# Altium footprint library IC_SMD_DUAL.PCBLIB: 187 footprints (part 7 of 12)
Each footprint in its own frame and in the unit in brackets; x right, y up, seen from the top. Pads: shape width x height; smd on the part's side, far side on the other; paste and mask are expansions set on the pad; w line width, h text height; cw(c..) or ccw(c..) is an arc to the next point about the centre after c.
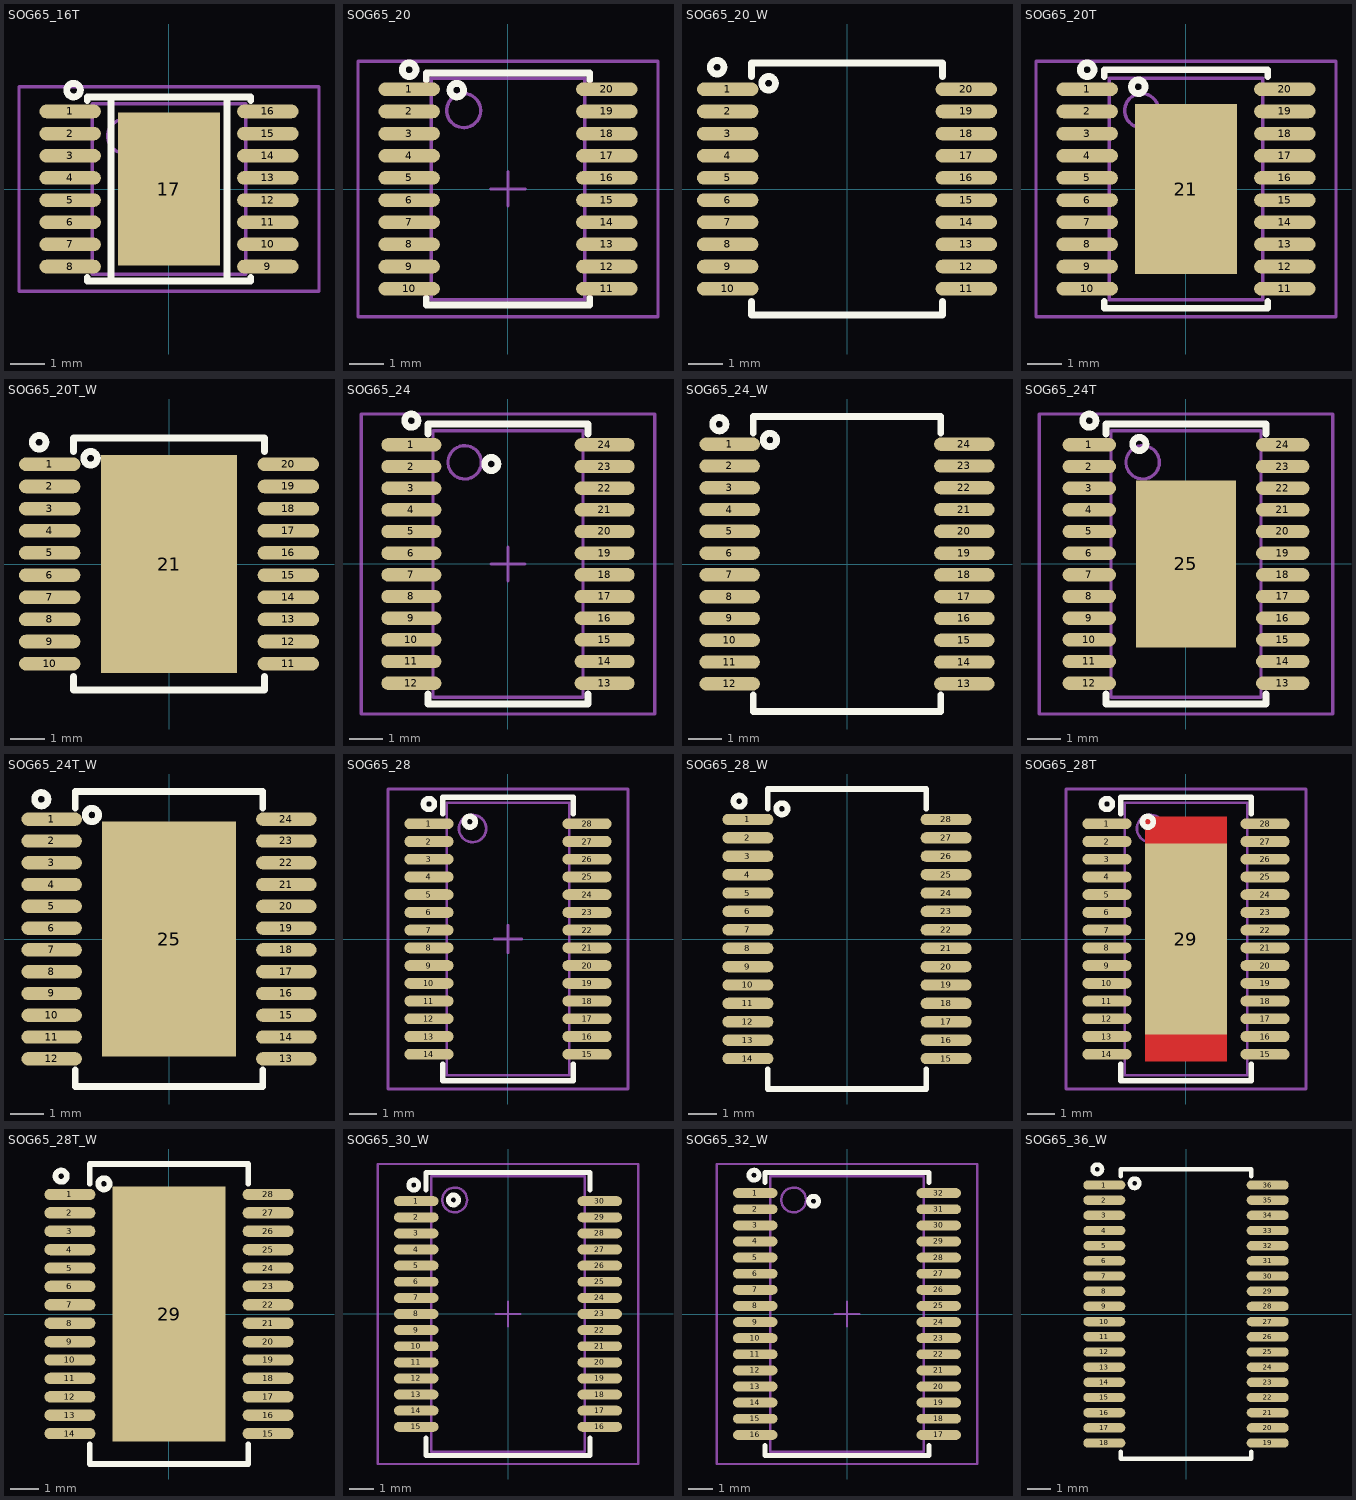
[diagram p6: the footprints below, top view; thin cyan lines are the x and y axes]

## SOG65_16T [mm] "TSSOP 4.4mm(MAXIM), MO-153-ABT (JEDEC), 16Lead, pitch: 0.65mm, 5x4.4x1.2mm"
height 1.2
pads (17):
  oval 1.8x0.4 smd mask+0.075: 1(-2.9,2.275) 2(-2.9,1.625) 3(-2.9,0.975) 4(-2.9,0.325) 5(-2.9,-0.325) 6(-2.9,-0.975) 7(-2.9,-1.625) 8(-2.9,-2.275) 9(2.9,-2.275) 10(2.9,-1.625) 11(2.9,-0.975) 12(2.9,-0.325) 13(2.9,0.325) 14(2.9,0.975) 15(2.9,1.625) 16(2.9,2.275)
  rect 3x4.5 smd paste-5 mask+0.1: 17(0,0)
TopOverlay:
  circle w0.2: c-2.8,2.9 r0.2
  lines w0.2: -2.4,-2.6 -2.4,-2.7 2.4,-2.7 2.4,-2.6 ; -2.4,2.6 -2.4,2.7 2.4,2.7 2.4,2.6 ; -1.7,-2.7 -1.7,2.7 ; 1.7,-2.7 1.7,2.7
TopPaste:
  rectangle: -1.3,-2 -0.2,-0.2
  region: 1.3,-0.2 0.2,-0.2 0.2,-2 1.3,-2
  region: 1.3,2 0.2,2 0.2,0.2 1.3,0.2
  rectangle: -1.3,0.2 -0.2,2
Mechanical13:
  circle w0.1: c-1.3,1.55 r0.5
  lines w0.1: -2.25,-2.5 -2.25,2.5 2.25,2.5 2.25,-2.5 -2.25,-2.5
Mechanical15:
  lines w0.1: -0.5,0 0.5,0 ; 0,-0.5 0,0.5 ; -4.4,-3 -4.4,3 4.4,3 4.4,-3 -4.4,-3
3D body "User Library-TSSOP-16-1.step": height 1.1, standoff 0, extent -3.2,-2.5 3.2,2.5

## SOG65_20 [mm] "PW TSSOP (TI), MO-153-AC (JEDEC), 20Lead, pitch: 0.65mm, 6.5x4.4x1.2mm"
height 1.2
pads (20):
  oval 1.8x0.4 smd mask+0.075: 1(-2.9,2.925) 2(-2.9,2.275) 3(-2.9,1.625) 4(-2.9,0.975) 5(-2.9,0.325) 6(-2.9,-0.325) 7(-2.9,-0.975) 8(-2.9,-1.625) 9(-2.9,-2.275) 10(-2.9,-2.925) 11(2.9,-2.925) 12(2.9,-2.275) 13(2.9,-1.625) 14(2.9,-0.975) 15(2.9,-0.325) 16(2.9,0.325) 17(2.9,0.975) 18(2.9,1.625) 19(2.9,2.275) 20(2.9,2.925)
TopOverlay:
  circle w0.2: c-1.5,2.9 r0.2
  circle w0.2: c-2.9,3.5 r0.2
  lines w0.2: -2.4,-3.2 -2.4,-3.4 2.4,-3.4 2.4,-3.2 ; -2.4,3.2 -2.4,3.4 2.4,3.4 2.4,3.2
Mechanical13:
  circle w0.1: c-1.3,2.3 r0.5
  lines w0.1: -2.25,-3.25 2.25,-3.25 2.25,3.25 -2.25,3.25 -2.25,-3.25
Mechanical15:
  lines w0.1: -0.5,0 0.5,0 ; 0,-0.5 0,0.5 ; -4.4,-3.75 4.4,-3.75 4.4,3.75 -4.4,3.75 -4.4,-3.75
3D body "User Library-TSSOP-20-2.STEP": height 1.2, standoff 0, extent -3.2,-3.25 3.2,3.25

## SOG65_20_W [mm] "SSOP20, TSSOP20, RU-20, RQ-20, DB, pitch: 0.65mm, 7X5.3mm, QSP, SOT339-1, SOT266-1, AT-260, TSSO6X6-G20, NP20, MO-153AC, MO-150AE, MO-137-AD, MO-152"
pads (20):
  oval 1.8x0.4 smd mask+0.075: 1(-3.5,2.925) 2(-3.5,2.275) 3(-3.5,1.625) 4(-3.5,0.975) 5(-3.5,0.325) 6(-3.5,-0.325) 7(-3.5,-0.975) 8(-3.5,-1.625) 9(-3.5,-2.275) 10(-3.5,-2.925) 11(3.5,-2.925) 12(3.5,-2.275) 13(3.5,-1.625) 14(3.5,-0.975) 15(3.5,-0.325) 16(3.5,0.325) 17(3.5,0.975) 18(3.5,1.625) 19(3.5,2.275) 20(3.5,2.925)
TopOverlay:
  circle w0.2: c-3.81,3.57 r0.2
  circle w0.2: c-2.3,3.1 r0.2
  lines w0.2: -2.8,-3.3 -2.8,-3.7 2.8,-3.7 2.8,-3.3 ; -2.8,3.3 -2.8,3.7 2.8,3.7 2.8,3.3
3D body "User Library-SSOP 20 PIN-1.step": height 1.98, standoff -0.01, extent -3.95,-3.665 3.95,3.665

## SOG65_20T [mm] "TSSOP 4.4mm(MAXIM), MO-153-ACT (JEDEC), 20Lead, pitch: 0.65mm, 6.5x4.4x1.2mm"
height 1.2
pads (21):
  oval 1.8x0.4 smd mask+0.075: 1(-2.9,2.925) 2(-2.9,2.275) 3(-2.9,1.625) 4(-2.9,0.975) 5(-2.9,0.325) 6(-2.9,-0.325) 7(-2.9,-0.975) 8(-2.9,-1.625) 9(-2.9,-2.275) 10(-2.9,-2.925) 11(2.9,-2.925) 12(2.9,-2.275) 13(2.9,-1.625) 14(2.9,-0.975) 15(2.9,-0.325) 16(2.9,0.325) 17(2.9,0.975) 18(2.9,1.625) 19(2.9,2.275) 20(2.9,2.925)
  rect 3x5 smd paste-5 mask+0.1: 21(0,0)
TopOverlay:
  circle w0.2: c-2.9,3.5 r0.2
  circle w0.2: c-1.4,3 r0.2
  lines w0.2: -2.4,-3.3 -2.4,-3.5 2.4,-3.5 2.4,-3.3 ; -2.4,3.3 -2.4,3.5 2.4,3.5 2.4,3.3
TopPaste:
  region: 1.3,2.3 0.2,2.3 0.2,0.2 1.3,0.2
  rectangle: -1.3,0.2 -0.2,2.3
  rectangle: -1.3,-2.3 -0.2,-0.2
  region: 1.3,-0.2 0.2,-0.2 0.2,-2.3 1.3,-2.3
Mechanical13:
  circle w0.1: c-1.3,2.3 r0.5
  lines w0.1: -2.25,-3.25 2.25,-3.25 2.25,3.25 -2.25,3.25 -2.25,-3.25
Mechanical15:
  lines w0.1: -0.5,0 0.5,0 ; 0,-0.5 0,0.5 ; -4.4,-3.75 4.4,-3.75 4.4,3.75 -4.4,3.75 -4.4,-3.75
3D body "User Library-TSSOP-20-2.STEP": height 1.2, standoff 0, extent -3.2,-3.25 3.2,3.25

## SOG65_20T_W [mm] "TSSOP20P, PWP, pitch: 0.65mm, 7X5.3mm, MO-153"
pads (21):
  oval 1.8x0.4 smd mask+0.075: 1(-3.5,2.925) 2(-3.5,2.275) 3(-3.5,1.625) 4(-3.5,0.975) 5(-3.5,0.325) 6(-3.5,-0.325) 7(-3.5,-0.975) 8(-3.5,-1.625) 9(-3.5,-2.275) 10(-3.5,-2.925) 11(3.5,-2.925) 12(3.5,-2.275) 13(3.5,-1.625) 14(3.5,-0.975) 15(3.5,-0.325) 16(3.5,0.325) 17(3.5,0.975) 18(3.5,1.625) 19(3.5,2.275) 20(3.5,2.925)
  rect 4x6.4 smd paste-5 mask+0.075: 21(0,0)
TopOverlay:
  circle w0.2: c-3.81,3.57 r0.2
  circle w0.2: c-2.3,3.1 r0.2
  lines w0.2: -2.8,-3.3 -2.8,-3.7 2.8,-3.7 2.8,-3.3 ; -2.8,3.3 -2.8,3.7 2.8,3.7 2.8,3.3
TopPaste:
  rectangle: -1.8,0.2 -0.2,1.4
  rectangle: -1.8,1.8 -0.2,3
  region: 1.8,3 0.2,3 0.2,1.8 1.8,1.8
  region: 1.8,1.4 0.2,1.4 0.2,0.2 1.8,0.2
  region: 1.8,-0.2 0.2,-0.2 0.2,-1.4 1.8,-1.4
  region: 1.8,-1.8 0.2,-1.8 0.2,-3 1.8,-3
  rectangle: -1.8,-3 -0.2,-1.8
  rectangle: -1.8,-1.4 -0.2,-0.2
3D body "User Library-SSOP 20 PIN-1.step": height 1.98, standoff -0.01, extent -3.95,-3.665 3.95,3.665

## SOG65_24 [mm] "PW TSSOP (TI), MO-153-AD (JEDEC), 24Lead, pitch: 0.65mm, 8x4.4x1.2mm"
height 1.2
pads (24):
  oval 1.8x0.4 smd mask+0.075: 1(-2.9,3.575) 2(-2.9,2.925) 3(-2.9,2.275) 4(-2.9,1.625) 5(-2.9,0.975) 6(-2.9,0.325) 7(-2.9,-0.325) 8(-2.9,-0.975) 9(-2.9,-1.625) 10(-2.9,-2.275) 11(-2.9,-2.925) 12(-2.9,-3.575) 13(2.9,-3.575) 14(2.9,-2.925) 15(2.9,-2.275) 16(2.9,-1.625) 17(2.9,-0.975) 18(2.9,-0.325) 19(2.9,0.325) 20(2.9,0.975) 21(2.9,1.625) 22(2.9,2.275) 23(2.9,2.925) 24(2.9,3.575)
TopOverlay:
  circle w0.2: c-0.5,3 r0.2
  circle w0.2: c-2.9,4.3 r0.2
  lines w0.2: -2.4,-3.9 -2.4,-4.2 2.4,-4.2 2.4,-3.9 ; -2.4,3.9 -2.4,4.2 2.4,4.2 2.4,3.9
Mechanical13:
  circle w0.1: c-1.3,3.05 r0.5
  lines w0.1: -2.25,-4 2.25,-4 2.25,4 -2.25,4 -2.25,-4
Mechanical15:
  lines w0.1: -0.5,0 0.5,0 ; 0,-0.5 0,0.5 ; -4.4,-4.5 4.4,-4.5 4.4,4.5 -4.4,4.5 -4.4,-4.5
3D body "User Library-TSSOP-24.STEP": height 1.2, standoff 0, extent -3.2,-3.9 3.2,3.9

## SOG65_24_W [mm] "DB, SSOP24, TSSOP24, 0.65mm pitch, 5.3mm Width, SOT340-1, SOT355-1, MO-150AG, MO-153AD(JEDEC),"
pads (24):
  oval 1.8x0.4 smd mask+0.075: 1(-3.5,3.575) 2(-3.5,2.925) 3(-3.5,2.275) 4(-3.5,1.625) 5(-3.5,0.975) 6(-3.5,0.325) 7(-3.5,-0.325) 8(-3.5,-0.975) 9(-3.5,-1.625) 10(-3.5,-2.275) 11(-3.5,-2.925) 12(-3.5,-3.575) 13(3.5,-3.575) 14(3.5,-2.925) 15(3.5,-2.275) 16(3.5,-1.625) 17(3.5,-0.975) 18(3.5,-0.325) 19(3.5,0.325) 20(3.5,0.975) 21(3.5,1.625) 22(3.5,2.275) 23(3.5,2.925) 24(3.5,3.575)
TopOverlay:
  circle w0.2: c-3.81,4.17 r0.2
  circle w0.2: c-2.3,3.7 r0.2
  lines w0.2: -2.8,-3.9 -2.8,-4.4 2.8,-4.4 2.8,-3.9 ; -2.8,3.9 -2.8,4.4 2.8,4.4 2.8,3.9
3D body "User Library-SSOP 24 PIN_.step": height 1.98, standoff -0.01, extent -3.95,-4.315 3.95,4.315

## SOG65_24T [mm] "TSSOP 4.4mm(MAXIM), MO-153-ADT (JEDEC), 24Lead, pitch: 0.65mm, 8x4.4x1.2mm"
height 1.2
pads (25):
  oval 1.6x0.4 smd mask+0.075: 1(-2.9,3.575) 2(-2.9,2.925) 3(-2.9,2.275) 4(-2.9,1.625) 5(-2.9,0.975) 6(-2.9,0.325) 7(-2.9,-0.325) 8(-2.9,-0.975) 9(-2.9,-1.625) 10(-2.9,-2.275) 11(-2.9,-2.925) 12(-2.9,-3.575) 13(2.9,-3.575) 14(2.9,-2.925) 15(2.9,-2.275) 16(2.9,-1.625) 17(2.9,-0.975) 18(2.9,-0.325) 19(2.9,0.325) 20(2.9,0.975) 21(2.9,1.625) 22(2.9,2.275) 23(2.9,2.925) 24(2.9,3.575)
  rect 3x5 smd paste-5 mask+0.1: 25(0,0)
TopOverlay:
  circle w0.2: c-1.4,3.6 r0.2
  circle w0.2: c-2.9,4.3 r0.2
  lines w0.2: -2.4,-3.9 -2.4,-4.2 2.4,-4.2 2.4,-3.9 ; -2.4,3.9 -2.4,4.2 2.4,4.2 2.4,3.9
TopPaste:
  rectangle: -1.3,-1.2 -0.2,-0.2
  rectangle: -1.3,-2.4 -0.2,-1.4
  region: 1.3,-1.4 0.2,-1.4 0.2,-2.4 1.3,-2.4
  region: 1.3,-0.2 0.2,-0.2 0.2,-1.2 1.3,-1.2
  region: 1.3,1.2 0.2,1.2 0.2,0.2 1.3,0.2
  region: 1.3,2.4 0.2,2.4 0.2,1.4 1.3,1.4
  rectangle: -1.3,1.4 -0.2,2.4
  rectangle: -1.3,0.2 -0.2,1.2
Mechanical13:
  circle w0.1: c-1.3,3.05 r0.5
  lines w0.1: -2.25,-4 2.25,-4 2.25,4 -2.25,4 -2.25,-4
Mechanical15:
  lines w0.1: -0.5,0 0.5,0 ; 0,-0.5 0,0.5 ; -4.4,-4.5 4.4,-4.5 4.4,4.5 -4.4,4.5 -4.4,-4.5
3D body "PWP0024B.stp": height 1, standoff 0, extent -3.211,-3.9 3.21,3.9

## SOG65_24T_W [mm]
pads (25):
  oval 1.8x0.4 smd mask+0.075: 1(-3.5,3.575) 2(-3.5,2.925) 3(-3.5,2.275) 4(-3.5,1.625) 5(-3.5,0.975) 6(-3.5,0.325) 7(-3.5,-0.325) 8(-3.5,-0.975) 9(-3.5,-1.625) 10(-3.5,-2.275) 11(-3.5,-2.925) 12(-3.5,-3.575) 13(3.5,-3.575) 14(3.5,-2.925) 15(3.5,-2.275) 16(3.5,-1.625) 17(3.5,-0.975) 18(3.5,-0.325) 19(3.5,0.325) 20(3.5,0.975) 21(3.5,1.625) 22(3.5,2.275) 23(3.5,2.925) 24(3.5,3.575)
  rect 4x7 smd paste-5 mask+0.075: 25(0,0)
TopOverlay:
  circle w0.2: c-3.81,4.17 r0.2
  circle w0.2: c-2.3,3.7 r0.2
  lines w0.2: -2.8,-3.9 -2.8,-4.4 2.8,-4.4 2.8,-3.9 ; -2.8,3.9 -2.8,4.4 2.8,4.4 2.8,3.9
TopPaste:
  rectangle: -1.8,-1.5 -0.2,-0.2
  rectangle: -1.8,-3.3 -0.2,-1.9
  region: 1.8,-1.9 0.2,-1.9 0.2,-3.3 1.8,-3.3
  region: 1.8,-0.2 0.2,-0.2 0.2,-1.5 1.8,-1.5
  region: 1.8,1.5 0.2,1.5 0.2,0.2 1.8,0.2
  region: 1.8,3.3 0.2,3.3 0.2,1.9 1.8,1.9
  rectangle: -1.8,1.9 -0.2,3.3
  rectangle: -1.8,0.2 -0.2,1.5
3D body "User Library-SSOP 24 PIN_.step": height 1.98, standoff -0.01, extent -3.95,-4.315 3.95,4.315

## SOG65_28 [mm] "PW TSSOP (TI), MO-153-AE (JEDEC), 28Lead, pitch: 0.65mm, 10x4.4x1.2mm"
height 1.2
pads (28):
  oval 1.8x0.4 smd mask+0.075: 1(-2.9,4.225) 2(-2.9,3.575) 3(-2.9,2.925) 4(-2.9,2.275) 5(-2.9,1.625) 6(-2.9,0.975) 7(-2.9,0.325) 8(-2.9,-0.325) 9(-2.9,-0.975) 10(-2.9,-1.625) 11(-2.9,-2.275) 12(-2.9,-2.925) 13(-2.9,-3.575) 14(-2.9,-4.225) 15(2.9,-4.225) 16(2.9,-3.575) 17(2.9,-2.925) 18(2.9,-2.275) 19(2.9,-1.625) 20(2.9,-0.975) 21(2.9,-0.325) 22(2.9,0.325) 23(2.9,0.975) 24(2.9,1.625) 25(2.9,2.275) 26(2.9,2.925) 27(2.9,3.575) 28(2.9,4.225)
TopOverlay:
  circle w0.2: c-1.4,4.3 r0.2
  circle w0.2: c-2.9,4.95 r0.2
  lines w0.2: -2.4,-4.6 -2.4,-5.2 2.4,-5.2 2.4,-4.6 ; -2.4,4.6 -2.4,5.2 2.4,5.2 2.4,4.6
Mechanical13:
  circle w0.1: c-1.3,4.05 r0.5
  lines w0.1: -2.25,-5 2.25,-5 2.25,5 -2.25,5 -2.25,-5
Mechanical15:
  lines w0.1: -0.5,0 0.5,0 ; 0,-0.5 0,0.5 ; -4.4,-5.5 4.4,-5.5 4.4,5.5 -4.4,5.5 -4.4,-5.5
3D body "SW3dPS-TSSOP-28_P065.STEP": height 0.97, standoff -0.02, extent -3.2,-4.85 3.2,4.85

## SOG65_28_W [mm] "SOP, 28-Leads, Body 10.6x5.6mm (max), Pitch 0.65mm"
height 2
pads (28):
  oval 1.8x0.4 smd mask+0.075: 1(-3.5,4.225) 2(-3.5,3.575) 3(-3.5,2.925) 4(-3.5,2.275) 5(-3.5,1.625) 6(-3.5,0.975) 7(-3.5,0.325) 8(-3.5,-0.325) 9(-3.5,-0.975) 10(-3.5,-1.625) 11(-3.5,-2.275) 12(-3.5,-2.925) 13(-3.5,-3.575) 14(-3.5,-4.225) 15(3.5,-4.225) 16(3.5,-3.575) 17(3.5,-2.925) 18(3.5,-2.275) 19(3.5,-1.625) 20(3.5,-0.975) 21(3.5,-0.325) 22(3.5,0.325) 23(3.5,0.975) 24(3.5,1.625) 25(3.5,2.275) 26(3.5,2.925) 27(3.5,3.575) 28(3.5,4.225)
TopOverlay:
  circle w0.2: c-3.81,4.87 r0.2
  circle w0.2: c-2.3,4.6 r0.2
  lines w0.2: -2.8,-4.6 -2.8,-5.3 2.8,-5.3 2.8,-4.6 ; -2.8,4.6 -2.8,5.3 2.8,5.3 2.8,4.6
3D body "User Library-SSOP-28-FT232RL.step": height 2.16, standoff 0, extent -3.878,-5.165 3.878,5.165

## SOG65_28T [mm] "TSSOP 4.4mm, MO-153-AET (JEDEC), 28TLead, pitch: 0.65mm, 10x4.4x1.2mm, PWP HTSSOP R-PDSO-G28"
height 1.2
pads (29):
  oval 1.8x0.4 smd mask+0.075: 1(-2.9,4.225) 2(-2.9,3.575) 3(-2.9,2.925) 4(-2.9,2.275) 5(-2.9,1.625) 6(-2.9,0.975) 7(-2.9,0.325) 8(-2.9,-0.325) 9(-2.9,-0.975) 10(-2.9,-1.625) 11(-2.9,-2.275) 12(-2.9,-2.925) 13(-2.9,-3.575) 14(-2.9,-4.225) 15(2.9,-4.225) 16(2.9,-3.575) 17(2.9,-2.925) 18(2.9,-2.275) 19(2.9,-1.625) 20(2.9,-0.975) 21(2.9,-0.325) 22(2.9,0.325) 23(2.9,0.975) 24(2.9,1.625) 25(2.9,2.275) 26(2.9,2.925) 27(2.9,3.575) 28(2.9,4.225)
  rect 3x7 smd paste-10 mask+0.1: 29(0,0)
TopLayer:
  rectangle: -1.5,-4.5 1.5,4.5
TopOverlay:
  circle w0.2: c-2.9,4.95 r0.2
  circle w0.2: c-1.4,4.3 r0.2
  lines w0.2: -2.4,-4.6 -2.4,-5.2 2.4,-5.2 2.4,-4.6 ; -2.4,4.6 -2.4,5.2 2.4,5.2 2.4,4.6
TopPaste:
  rectangle: -1.3,0.2 -0.2,1.2
  region: 1.3,1.2 0.2,1.2 0.2,0.2 1.3,0.2
  region: 1.3,-0.2 0.2,-0.2 0.2,-1.2 1.3,-1.2
  rectangle: -1.3,-1.2 -0.2,-0.2
  region: 1.3,2.6 0.2,2.6 0.2,1.6 1.3,1.6
  rectangle: -1.3,1.6 -0.2,2.6
  region: 1.3,4 0.2,4 0.2,3 1.3,3
  rectangle: -1.3,3 -0.2,4
  rectangle: -1.3,-4 -0.2,-3
  region: 1.3,-3 0.2,-3 0.2,-4 1.3,-4
  rectangle: -1.3,-2.6 -0.2,-1.6
  region: 1.3,-1.6 0.2,-1.6 0.2,-2.6 1.3,-2.6
Mechanical13:
  circle w0.1: c-1.3,4.05 r0.5
  lines w0.1: -2.25,-5 -2.25,5 2.25,5 2.25,-5 -2.25,-5
Mechanical15:
  lines w0.1: -0.5,0 0.5,0 ; 0,-0.5 0,0.5 ; -4.4,-5.5 -4.4,5.5 4.4,5.5 4.4,-5.5 -4.4,-5.5
3D body "User Library-PWP (R-PDSO-G28).STEP": height 1.2, standoff 0, extent -3.31,-4.9 3.31,4.9

## SOG65_28T_W [mm] "TSSOP28P, PWP"
pads (29):
  oval 1.8x0.4 smd mask+0.075: 1(-3.5,4.225) 2(-3.5,3.575) 3(-3.5,2.925) 4(-3.5,2.275) 5(-3.5,1.625) 6(-3.5,0.975) 7(-3.5,0.325) 8(-3.5,-0.325) 9(-3.5,-0.975) 10(-3.5,-1.625) 11(-3.5,-2.275) 12(-3.5,-2.925) 13(-3.5,-3.575) 14(-3.5,-4.225) 15(3.5,-4.225) 16(3.5,-3.575) 17(3.5,-2.925) 18(3.5,-2.275) 19(3.5,-1.625) 20(3.5,-0.975) 21(3.5,-0.325) 22(3.5,0.325) 23(3.5,0.975) 24(3.5,1.625) 25(3.5,2.275) 26(3.5,2.925) 27(3.5,3.575) 28(3.5,4.225)
  rect 4x9 smd paste-5 mask+0.075: 29(0,0)
TopOverlay:
  circle w0.2: c-2.3,4.6 r0.2
  circle w0.2: c-3.81,4.87 r0.2
  lines w0.2: -2.8,-4.6 -2.8,-5.3 2.8,-5.3 2.8,-4.6 ; -2.8,4.6 -2.8,5.3 2.8,5.3 2.8,4.6
TopPaste:
  region: 1.8,-0.2 0.2,-0.2 0.2,-1.9 1.8,-1.9
  region: 1.8,-2.4 0.2,-2.4 0.2,-4.3 1.8,-4.3
  rectangle: -1.8,-4.3 -0.2,-2.4
  rectangle: -1.8,-2 -0.2,-0.2
  rectangle: -1.8,0.2 -0.2,2
  rectangle: -1.8,2.4 -0.2,4.3
  region: 1.8,4.3 0.2,4.3 0.2,2.4 1.8,2.4
  region: 1.8,1.9 0.2,1.9 0.2,0.2 1.8,0.2
3D body "User Library-SSOP-28-FT232RL.step": height 2.16, standoff 0, extent -3.878,-5.165 3.878,5.165

## SOG65_30_W [mm] "DA, DAE TSSOP (TI), MO-153-DB-1 (JEDEC), 30Lead, pitch: 0.65mm, 11x6.1x1.2mm"
height 1.2
pads (30):
  oval 1.8x0.4 smd mask+0.075: 1(-3.7,4.55) 2(-3.7,3.9) 3(-3.7,3.25) 4(-3.7,2.6) 5(-3.7,1.95) 6(-3.7,1.3) 7(-3.7,0.65) 8(-3.7,0) 9(-3.7,-0.65) 10(-3.7,-1.3) 11(-3.7,-1.95) 12(-3.7,-2.6) 13(-3.7,-3.25) 14(-3.7,-3.9) 15(-3.7,-4.55) 16(3.7,-4.55) 17(3.7,-3.9) 18(3.7,-3.25) 19(3.7,-2.6) 20(3.7,-1.95) 21(3.7,-1.3) 22(3.7,-0.65) 23(3.7,0) 24(3.7,0.65) 25(3.7,1.3) 26(3.7,1.95) 27(3.7,2.6) 28(3.7,3.25) 29(3.7,3.9) 30(3.7,4.55)
TopOverlay:
  circle w0.2: c-3.8,5.2 r0.2
  circle w0.2: c-2.2,4.6 r0.2
  lines w0.2: -3.3,-5 -3.3,-5.7 3.3,-5.7 3.3,-5 ; -3.3,5 -3.3,5.7 3.3,5.7 3.3,5
Mechanical13:
  circle w0.1: c-2.15,4.6 r0.5
  lines w0.1: -3.1,-5.55 -3.1,5.55 3.1,5.55 3.1,-5.55 -3.1,-5.55
Mechanical15:
  lines w0.1: -0.5,0 0.5,0 ; 0,-0.5 0,0.5 ; -5.25,-6.05 -5.25,6.05 5.25,6.05 5.25,-6.05 -5.25,-6.05
3D body "User Library-TSSOP-30 11_1x6_2.STEP": height 1.1, standoff 0, extent -4.05,-5.55 4.05,5.55

## SOG65_32_W [mm] "DA, DAE TSSOP (TI), MO-153-DC (JEDEC), 32Lead, pitch: 0.65mm, 11x6.1x1.2mm"
height 1.2
pads (32):
  oval 1.8x0.4 smd mask+0.075: 1(-3.7,4.875) 2(-3.7,4.225) 3(-3.7,3.575) 4(-3.7,2.925) 5(-3.7,2.275) 6(-3.7,1.625) 7(-3.7,0.975) 8(-3.7,0.325) 9(-3.7,-0.325) 10(-3.7,-0.975) 11(-3.7,-1.625) 12(-3.7,-2.275) 13(-3.7,-2.925) 14(-3.7,-3.575) 15(-3.7,-4.225) 16(-3.7,-4.875) 17(3.7,-4.875) 18(3.7,-4.225) 19(3.7,-3.575) 20(3.7,-2.925) 21(3.7,-2.275) 22(3.7,-1.625) 23(3.7,-0.975) 24(3.7,-0.325) 25(3.7,0.325) 26(3.7,0.975) 27(3.7,1.625) 28(3.7,2.275) 29(3.7,2.925) 30(3.7,3.575) 31(3.7,4.225) 32(3.7,4.875)
TopOverlay:
  circle w0.2: c-1.35,4.55 r0.2
  circle w0.2: c-3.75,5.6 r0.2
  lines w0.2: -3.3,-5.3 -3.3,-5.7 3.3,-5.7 3.3,-5.3 ; -3.3,5.3 -3.3,5.7 3.3,5.7 3.3,5.3
Mechanical13:
  circle w0.1: c-2.15,4.6 r0.5
  lines w0.1: -3.1,-5.55 3.1,-5.55 3.1,5.55 -3.1,5.55 -3.1,-5.55
Mechanical15:
  lines w0.1: -0.5,0 0.5,0 ; 0,-0.5 0,0.5 ; -5.25,-6.05 5.25,-6.05 5.25,6.05 -5.25,6.05 -5.25,-6.05
3D body "User Library-TSSOP-32 11_1x6_2.STEP": height 1.1, standoff 0, extent -4.05,-5.55 4.05,5.55

## SOG65_36_W [mm] "SSOP36, TSSOP36"
pads (36):
  oval 1.8x0.4 smd mask+0.075: 1(-3.5,5.525) 2(-3.5,4.875) 3(-3.5,4.225) 4(-3.5,3.575) 5(-3.5,2.925) 6(-3.5,2.275) 7(-3.5,1.625) 8(-3.5,0.975) 9(-3.5,0.325) 10(-3.5,-0.325) 11(-3.5,-0.975) 12(-3.5,-1.625) 13(-3.5,-2.275) 14(-3.5,-2.925) 15(-3.5,-3.575) 16(-3.5,-4.225) 17(-3.5,-4.875) 18(-3.5,-5.525) 19(3.5,-5.525) 20(3.5,-4.875) 21(3.5,-4.225) 22(3.5,-3.575) 23(3.5,-2.925) 24(3.5,-2.275) 25(3.5,-1.625) 26(3.5,-0.975) 27(3.5,-0.325) 28(3.5,0.325) 29(3.5,0.975) 30(3.5,1.625) 31(3.5,2.275) 32(3.5,2.925) 33(3.5,3.575) 34(3.5,4.225) 35(3.5,4.875) 36(3.5,5.525)
TopOverlay:
  circle w0.2: c-3.8,6.2 r0.2
  circle w0.2: c-2.2,5.6 r0.2
  lines w0.2: -2.8,-5.9 -2.8,-6.2 2.8,-6.2 2.8,-5.9 ; -2.8,5.9 -2.8,6.2 2.8,6.2 2.8,5.9